# Altium schematic symbol library Esqlib.SchLib: 44 symbols (part 4 of 5)
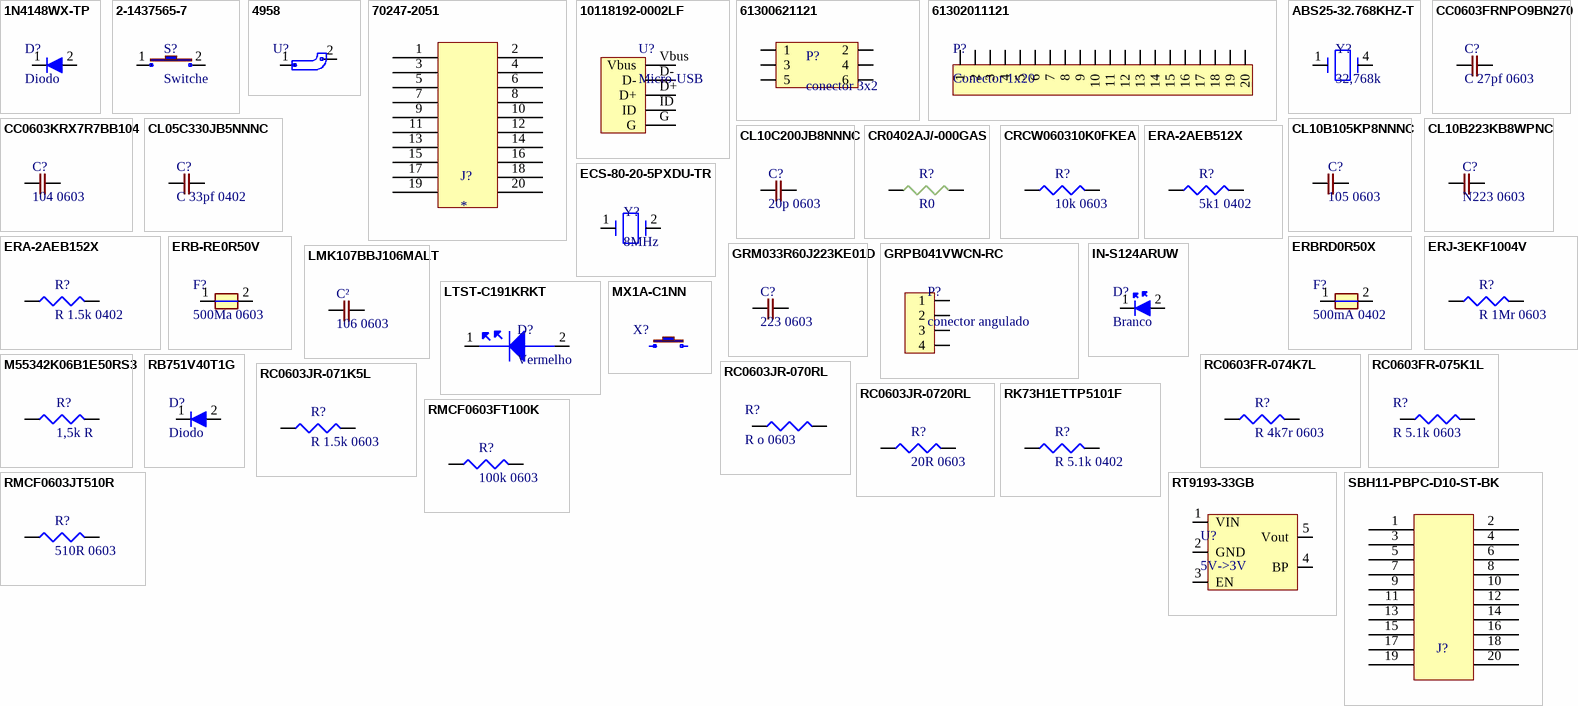
[diagram p4: symbols 1N4148WX-TP to SBH11-PBPC-D10-ST-BK]

## RC0603JR-071K5L
designator R?, comment R 1.5k 0603
100Mw Thick Film Resistors 100Ppm/ 5% 1.5K 0603 Chip Resistor Surface Mount Rohs; Manufacturer: Yageo Group; Manufacturer Part Number: RC0603JR-071K5L; Value: 1.5kΩ; Temperature Coefficient: 100ppm/°C; Voltage Rating: 75V; Voltage Rating (AC): 50V; Supplier: DigiKey; Supplier Part Number: 311-1.5KGRCT-ND; RoHS: Compliant; Category: Chip SMD Resistors; Stock: 704185; Pricing: 1=0,1, 10=0,005, 25=0,0048 (USD); Case/Package: 0603; Case Code (Imperial): 0603; China RoHS: Non-Compliant; Composition: Thick Film; Depth: 800µm; Features: Moisture Resistant; Height: 450µm; Lead Free: Lead Free; Length: 1.6mm; Lifecycle Status: Production; Max Operating Temperature: 155°C; Max Power Dissipation: 100mW; Military Standard: Not; Min Operating Temperature: -55°C; Mounting Technology: Surface Mount; Pins: 2; Number of Terminals: 2; Number of Terminations: 2; Packaging: Tape & Reel; Power Dissipation: 100mW; Power Rating: 100mW; REACH SVHC: Yes; Schedule B: 8533210045, 8533210045|8533210045, 8533210045|8533210045|8533210045, 8533210045|8533210045|8533210045|8533210045; Termination: SMD/SMT; Tolerance: 5%; Voltage Rating (DC): 50V; Weight: 2.012816mg; Width: 800µm; Working Voltage: 75V; ComponentLink1URL: https://datasheet.octopart.com:443/RC0603JR-071K5L-Yageo-datasheet-175887523.pdf?src-supplier=Newark; ComponentLink1Description: https://datasheet.octopart.com:443/RC0603JR-071K5L-Yageo-datasheet-175887523.pdf?src-supplier=Newark; ComponentLink2URL: https://datasheet.octopart.com:443/RC0603JR-071K5L-Yageo-datasheet-8328172.pdf?src-supplier=Newark; ComponentLink2Description: https://datasheet.octopart.com:443/RC0603JR-071K5L-Yageo-datasheet-8328172.pdf?src-supplier=Newark; ComponentLink3URL: https://datasheet.octopart.com:443/RC0603JR-071K5L-Yageo-datasheet-62067350.pdf?src-supplier=element14+APAC; ComponentLink3Description: https://datasheet.octopart.com:443/RC0603JR-071K5L-Yageo-datasheet-62067350.pdf?src-supplier=element14+APAC; ComponentLink4URL: https://datasheet.octopart.com:443/RC0603JR-071K5L-Yageo-datasheet-34211833.pdf?src-supplier=element14+APAC; ComponentLink4Description: https://datasheet.octopart.com:443/RC0603JR-071K5L-Yageo-datasheet-34211833.pdf?src-supplier=element14+APAC; ComponentLink5URL: https://datasheet.octopart.com:443/RC0603JR-071K5L-Yageo-Group-datasheet-176638170.pdf?src-supplier=Farnell; ComponentLink5Description: https://datasheet.octopart.com:443/RC0603JR-071K5L-Yageo-Group-datasheet-176638170.pdf?src-supplier=Farnell; ComponentLink6URL: https://datasheet.octopart.com:443/RC0603JR-071K5L-Yageo-datasheet-164759695.pdf?src-supplier=Future+Electronics; ComponentLink6Description: https://datasheet.octopart.com:443/RC0603JR-071K5L-Yageo-datasheet-164759695.pdf?src-supplier=Future+Electronics; ComponentLink7URL: https://datasheet.octopart.com:443/RC0603JR-071K5L-Yageo-datasheet-137700087.pdf?src-supplier=Future+Electronics; ComponentLink7Description: https://datasheet.octopart.com:443/RC0603JR-071K5L-Yageo-datasheet-137700087.pdf?src-supplier=Future+Electronics; ComponentLink8URL: https://datasheet.octopart.com:443/RC0603JR-071K5L-Yageo-datasheet-27584510.pdf?src-supplier=Future+Electronics; ComponentLink8Description: https://datasheet.octopart.com:443/RC0603JR-071K5L-Yageo-datasheet-27584510.pdf?src-supplier=Future+Electronics; ComponentLink9URL: https://datasheet.octopart.com:443/RC0603JR-071K5L-Yageo-datasheet-15599030.pdf?src-supplier=Future+Electronics; ComponentLink9Description: https://datasheet.octopart.com:443/RC0603JR-071K5L-Yageo-datasheet-15599030.pdf?src-supplier=Future+Electronics; ComponentLink10URL: https://datasheet.octopart.com:443/RC0603JR-071K5L-Yageo-datasheet-12596169.pdf?src-supplier=Future+Electronics; ComponentLink10Description: https://datasheet.octopart.com:443/RC0603JR-071K5L-Yageo-datasheet-12596169.pdf?src-supplier=Future+Electronics; ComponentLink11URL: https://datasheet.octopart.com:443/RC0603JR-071K5L-Yageo-datasheet-8324193.pdf?src-supplier=Future+Electronics; ComponentLink11Description: https://datasheet.octopart.com:443/RC0603JR-071K5L-Yageo-datasheet-8324193.pdf?src-supplier=Future+Electronics; ComponentLink12URL: https://datasheet.octopart.com:443/RC0603JR-071K5L-Yageo-datasheet-79472498.pdf?src-supplier=Megastar; ComponentLink12Description: https://datasheet.octopart.com:443/RC0603JR-071K5L-Yageo-datasheet-79472498.pdf?src-supplier=Megastar; ComponentLink13URL: https://datasheet.octopart.com/RC0603JR-071K5L-Yageo-datasheet-73766026.pdf; ComponentLink13Description: https://datasheet.octopart.com/RC0603JR-071K5L-Yageo-datasheet-73766026.pdf; ComponentLink14URL: https://datasheet.octopart.com:443/RC0603JR-071K5L-Yageo-datasheet-118562.pdf?src-supplier=DigiKey; ComponentLink14Description: https://datasheet.octopart.com:443/RC0603JR-071K5L-Yageo-datasheet-118562.pdf?src-supplier=DigiKey; ComponentLink15URL: http://sigma.octopart.com:80/conflict_mineral_statement/Yageo-company-3.pdf?src-supplier=Compliance+Statements; ComponentLink15Description: http://sigma.octopart.com:80/conflict_mineral_statement/Yageo-company-3.pdf?src-supplier=Compliance+Statements; ComponentLink16URL: http://sigma.octopart.com:80/rohs_statement/Yageo-company-2.pdf?src-supplier=Compliance+Statements; ComponentLink16Description: http://sigma.octopart.com:80/rohs_statement/Yageo-company-2.pdf?src-supplier=Compliance+Statements
footprint R 1.5k 0603
pins: 1, 2

## RC0603JR-0720RL
designator R?, comment 20R 0603
100mW Thick Film Resistors 75V ±100ppm/℃ ±5% 20Ω 0603 Chip Resistor - Surface Mount ROHS; Manufacturer: Yageo Group; Manufacturer Part Number: RC0603JR-0720RL; Temperature Coefficient: 100ppm/°C; Voltage Rating (DC): 50V; Supplier: DigiKey; Supplier Part Number: 311-20GRCT-ND; RoHS: Compliant; Category: Chip SMD Resistors; Stock: 1166777; Pricing: 1=0,1, 10=0,008, 25=0,0076, 50=0,0072, 100=0,0061, 250=0,005 (USD); Case/Package: 0603; Case Code (Imperial): 0603; China RoHS: Non-Compliant; Composition: Thick Film; Depth: 800µm; Features: Moisture Resistant; Height: 450µm; Lead Free: Lead Free; Length: 1.6mm; Lifecycle Status: Production; Max Operating Temperature: 155°C; Max Power Dissipation: 100mW; Military Standard: Not; Min Operating Temperature: -55°C; Mounting Technology: Surface Mount; Number of Terminals: 2; Number of Terminations: 2; Power Dissipation: 100mW; Power Rating: 100mW; REACH SVHC: Yes; Value: 20Ω; Schedule B: 8533210045, 8533210045|8533210045|8533210045|8533210045|8533210045; Termination: SMD/SMT; Tolerance: 5%; Voltage Rating: 75V; Weight: 2.012816mg; Width: 800µm; Working Voltage: 75V; ComponentLink1URL: https://datasheet.octopart.com:443/RC0603JR-0720RL-Yageo-datasheet-175887523.pdf?src-supplier=Newark; ComponentLink1Description: https://datasheet.octopart.com:443/RC0603JR-0720RL-Yageo-datasheet-175887523.pdf?src-supplier=Newark; ComponentLink2URL: https://datasheet.octopart.com:443/RC0603JR-0720RL-Yageo-datasheet-8328172.pdf?src-supplier=TME; ComponentLink2Description: https://datasheet.octopart.com:443/RC0603JR-0720RL-Yageo-datasheet-8328172.pdf?src-supplier=TME; ComponentLink3URL: https://datasheet.octopart.com:443/RC0603JR-0720RL-Yageo-datasheet-34211833.pdf?src-supplier=element14+APAC; ComponentLink3Description: https://datasheet.octopart.com:443/RC0603JR-0720RL-Yageo-datasheet-34211833.pdf?src-supplier=element14+APAC; ComponentLink4URL: https://datasheet.octopart.com:443/RC0603JR-0720RL-Yageo-datasheet-62067350.pdf?src-supplier=Farnell; ComponentLink4Description: https://datasheet.octopart.com:443/RC0603JR-0720RL-Yageo-datasheet-62067350.pdf?src-supplier=Farnell; ComponentLink5URL: https://datasheet.octopart.com:443/RC0603JR-0720RL-Yageo-datasheet-164759695.pdf?src-supplier=Future+Electronics; ComponentLink5Description: https://datasheet.octopart.com:443/RC0603JR-0720RL-Yageo-datasheet-164759695.pdf?src-supplier=Future+Electronics; ComponentLink6URL: https://datasheet.octopart.com:443/RC0603JR-0720RL-Yageo-datasheet-137700087.pdf?src-supplier=Future+Electronics; ComponentLink6Description: https://datasheet.octopart.com:443/RC0603JR-0720RL-Yageo-datasheet-137700087.pdf?src-supplier=Future+Electronics; ComponentLink7URL: https://datasheet.octopart.com:443/RC0603JR-0720RL-Yageo-datasheet-15599030.pdf?src-supplier=Future+Electronics; ComponentLink7Description: https://datasheet.octopart.com:443/RC0603JR-0720RL-Yageo-datasheet-15599030.pdf?src-supplier=Future+Electronics; ComponentLink8URL: https://datasheet.octopart.com:443/RC0603JR-0720RL-Yageo-datasheet-12596169.pdf?src-supplier=Future+Electronics; ComponentLink8Description: https://datasheet.octopart.com:443/RC0603JR-0720RL-Yageo-datasheet-12596169.pdf?src-supplier=Future+Electronics; ComponentLink9URL: https://datasheet.octopart.com:443/RC0603JR-0720RL-Yageo-datasheet-8324193.pdf?src-supplier=Future+Electronics; ComponentLink9Description: https://datasheet.octopart.com:443/RC0603JR-0720RL-Yageo-datasheet-8324193.pdf?src-supplier=Future+Electronics; ComponentLink10URL: https://datasheet.octopart.com/RC0603JR-0720RL-Yageo-datasheet-73766026.pdf; ComponentLink10Description: https://datasheet.octopart.com/RC0603JR-0720RL-Yageo-datasheet-73766026.pdf; ComponentLink11URL: https://datasheet.octopart.com:443/RC0603JR-0720RL-Yageo-datasheet-118562.pdf?src-supplier=DigiKey; ComponentLink11Description: https://datasheet.octopart.com:443/RC0603JR-0720RL-Yageo-datasheet-118562.pdf?src-supplier=DigiKey; ComponentLink12URL: http://sigma.octopart.com:80/rohs_statement/Yageo-company-2.pdf?src-supplier=Compliance+Statements; ComponentLink12Description: http://sigma.octopart.com:80/rohs_statement/Yageo-company-2.pdf?src-supplier=Compliance+Statements; ComponentLink13URL: http://sigma.octopart.com:80/conflict_mineral_statement/Yageo-company-3.pdf?src-supplier=Compliance+Statements; ComponentLink13Description: http://sigma.octopart.com:80/conflict_mineral_statement/Yageo-company-3.pdf?src-supplier=Compliance+Statements
footprint R 20r 0603
pins: 1, 2

## RK73H1ETTP5101F
designator R?, comment R 5.1k 0402
Res Thick Film 0402 5.1K Ohm 1% 0.1W(1/10W) ±100ppm/C Pad SMD Automotive T/R; Manufacturer: KOA Speer; Manufacturer Part Number: RK73H1ETTP5101F; Power Dissipation: 100mW; Power Rating: 63mW; Value: 5.1kΩ; Temperature Coefficient: 100ppm/°C; Voltage Rating: 50V; Working Voltage: 75V; Supplier: DigiKey; Supplier Part Number: 2019-RK73H1ETTP5101FCT-ND; RoHS: Compliant; Category: Chip SMD Resistors; Stock: 145862; Pricing: 1=0,1, 10=0,027, 25=0,0196, 50=0,0158, 100=0,0129, 250=0,01004, 500=0,0084, 1000=0,00713, 5000=0,00544 (USD); Case/Package: 0402; Case Code (Imperial): 0402; Case Code (Metric): 1005; China RoHS: Non-Compliant; Composition: Thick Film; Height: 350µm; Lead Free: Lead Free; Length: 1mm; Lifecycle Status: Production; Max Operating Temperature: 155°C; Min Operating Temperature: -55°C; Mounting Technology: Surface Mount; Number of Terminals: 2; REACH SVHC: Yes; Schedule B: 8533210045, 8533210045|8533210045|8533210045|8533210045|8533210045; Termination: SMD/SMT; Tolerance: 1%; Voltage Rating (DC): 50V; Width: 500µm; ComponentLink1URL: https://datasheet.octopart.com:443/RK73H1ETTP5101F-KOA-Speer-datasheet-181956035.pdf?src-supplier=IHS; ComponentLink1Description: https://datasheet.octopart.com:443/RK73H1ETTP5101F-KOA-Speer-datasheet-181956035.pdf?src-supplier=IHS; ComponentLink2URL: https://datasheet.octopart.com:443/RK73H1ETTP5101F-KOA-Speer-datasheet-11590619.pdf?src-supplier=Upverter; ComponentLink2Description: https://datasheet.octopart.com:443/RK73H1ETTP5101F-KOA-Speer-datasheet-11590619.pdf?src-supplier=Upverter; ComponentLink3URL: https://datasheet.octopart.com:443/RK73H1ETTP5101F-KOA-Speer-datasheet-149653815.pdf?src-supplier=Newark; ComponentLink3Description: https://datasheet.octopart.com:443/RK73H1ETTP5101F-KOA-Speer-datasheet-149653815.pdf?src-supplier=Newark; ComponentLink4URL: https://datasheet.octopart.com:443/RK73H1ETTP5101F-KOA-Speer-datasheet-188906116.pdf?src-supplier=TME; ComponentLink4Description: https://datasheet.octopart.com:443/RK73H1ETTP5101F-KOA-Speer-datasheet-188906116.pdf?src-supplier=TME; ComponentLink5URL: https://datasheet.octopart.com:443/RK73H1ETTP5101F-KOA-Speer-datasheet-155997623.pdf?src-supplier=Future+Electronics; ComponentLink5Description: https://datasheet.octopart.com:443/RK73H1ETTP5101F-KOA-Speer-datasheet-155997623.pdf?src-supplier=Future+Electronics; ComponentLink6URL: https://datasheet.octopart.com/RK73H-%7C-Flat-Chip-Resistors-%28Precision-Grade%29-KOA-Speer-datasheet-family-85.pdf; ComponentLink6Description: https://datasheet.octopart.com/RK73H-%7C-Flat-Chip-Resistors-%28Precision-Grade%29-KOA-Speer-datasheet-family-85.pdf; ComponentLink7URL: http://sigma.octopart.com:80/rohs_certificate/RK73H-%7C-Flat-Chip-Resistors-%28Precision-Grade%29-KOA-Speer-family-91.pdf?src-supplier=Compliance+Statements; ComponentLink7Description: http://sigma.octopart.com:80/rohs_certificate/RK73H-%7C-Flat-Chip-Resistors-%28Precision-Grade%29-KOA-Speer-family-91.pdf?src-supplier=Compliance+Statements
footprint R 5.1k 0402
pins: 1, 2

## RMCF0603FT100K
designator R?, comment 100k 0603
Res Thick Film 0603 100K Ohm 1% 0.1W(1/10W) ±100ppm/C Pad SMD Automotive T/R; Manufacturer: Stackpole Electronics; Manufacturer Part Number: RMCF0603FT100K; Max Power Dissipation: 100mW; Value: 100kΩ; Temperature Coefficient: 100ppm/°C; Voltage Rating: 75V; Supplier: DigiKey; Supplier Part Number: RMCF0603FT100KCT-ND; RoHS: Compliant; Category: Chip SMD Resistors; Stock: 1557284; Pricing: 1=0,1, 10=0,013, 25=0,0096, 50=0,0092, 100=0,0069, 250=0,00576, 500=0,0048 (USD); Case/Package: 0603; Case Code (Imperial): 0603; Case Code (Metric): 1608; China RoHS: Non-Compliant; Composition: Thick Film; Contact Plating: Tin; Depth: 800µm; Features: Automotive AEC-Q200; Height: 450µm; Lead Free: Lead Free; Length: 1.55mm; Lifecycle Status: Production; Max Operating Temperature: 155°C; Military Standard: Not; Min Operating Temperature: -55°C; Mounting Technology: Surface Mount; Number of Terminals: 2; Number of Terminations: 2; Packaging: Cut Tape (CT); Power Dissipation: 100mW; Power Rating: 100mW; Radiation Hardening: No; REACH SVHC: Yes; Schedule B: 8533210045, 8533210045|8533210045, 8533210045|8533210045|8533210045, 8533210045|8533210045|8533210045|8533210045; Tolerance: 1%; Width: 800µm; Working Voltage: 75V; ComponentLink1URL: https://datasheet.octopart.com:443/RMCF0603FT100K-Stackpole-Electronics-datasheet-182148065.pdf?src-supplier=IHS; ComponentLink1Description: https://datasheet.octopart.com:443/RMCF0603FT100K-Stackpole-Electronics-datasheet-182148065.pdf?src-supplier=IHS; ComponentLink2URL: https://datasheet.octopart.com:443/RMCF0603FT100K-Stackpole-Electronics-datasheet-12534581.pdf?src-supplier=Upverter; ComponentLink2Description: https://datasheet.octopart.com:443/RMCF0603FT100K-Stackpole-Electronics-datasheet-12534581.pdf?src-supplier=Upverter; ComponentLink3URL: https://datasheet.octopart.com:443/RMCF0603FT100K-Stackpole-Electronics-datasheet-28504820.pdf?src-supplier=Upverter; ComponentLink3Description: https://datasheet.octopart.com:443/RMCF0603FT100K-Stackpole-Electronics-datasheet-28504820.pdf?src-supplier=Upverter; ComponentLink4URL: https://datasheet.octopart.com:443/RMCF0603FT100K-Stackpole-Electronics-datasheet-12510902.pdf?src-supplier=Upverter; ComponentLink4Description: https://datasheet.octopart.com:443/RMCF0603FT100K-Stackpole-Electronics-datasheet-12510902.pdf?src-supplier=Upverter; ComponentLink5URL: https://datasheet.octopart.com:443/RMCF0603FT100K-Stackpole-Electronics-datasheet-141193804.pdf?src-supplier=Stackpole+Electronics; ComponentLink5Description: https://datasheet.octopart.com:443/RMCF0603FT100K-Stackpole-Electronics-datasheet-141193804.pdf?src-supplier=Stackpole+Electronics; ComponentLink6URL: https://datasheet.octopart.com:443/RMCF0603FT100K-Stackpole-Electronics-datasheet-62091608.pdf?src-supplier=Stackpole+Electronics; ComponentLink6Description: https://datasheet.octopart.com:443/RMCF0603FT100K-Stackpole-Electronics-datasheet-62091608.pdf?src-supplier=Stackpole+Electronics; ComponentLink7URL: https://datasheet.octopart.com:443/RMCF0603FT100K-Stackpole-Electronics-datasheet-10788263.pdf?src-supplier=Stackpole+Electronics; ComponentLink7Description: https://datasheet.octopart.com:443/RMCF0603FT100K-Stackpole-Electronics-datasheet-10788263.pdf?src-supplier=Stackpole+Electronics; ComponentLink8URL: https://datasheet.octopart.com:443/RMCF0603FT100K-Stackpole-Electronics-datasheet-155966809.pdf?src-supplier=Electro+Sonic; ComponentLink8Description: https://datasheet.octopart.com:443/RMCF0603FT100K-Stackpole-Electronics-datasheet-155966809.pdf?src-supplier=Electro+Sonic; ComponentLink9URL: https://datasheet.octopart.com:443/RMCF0603FT100K-Stackpole-Electronics-datasheet-189104164.pdf?src-supplier=Master+Electronics; ComponentLink9Description: https://datasheet.octopart.com:443/RMCF0603FT100K-Stackpole-Electronics-datasheet-189104164.pdf?src-supplier=Master+Electronics; ComponentLink10URL: https://datasheet.octopart.com:443/RMCF0603FT100K-Stackpole-Electronics-datasheet-154799224.pdf?src-supplier=Master+Electronics; ComponentLink10Description: https://datasheet.octopart.com:443/RMCF0603FT100K-Stackpole-Electronics-datasheet-154799224.pdf?src-supplier=Master+Electronics; ComponentLink11URL: https://datasheet.octopart.com:443/RMCF0603FT100K-Stackpole-Electronics-datasheet-11546843.pdf?src-supplier=Arrow+Electronics; ComponentLink11Description: https://datasheet.octopart.com:443/RMCF0603FT100K-Stackpole-Electronics-datasheet-11546843.pdf?src-supplier=Arrow+Electronics; ComponentLink12URL: https://datasheet.octopart.com:443/RMCF0603FT100K-Stackpole-Electronics-datasheet-11547379.pdf?src-supplier=Future+Electronics; ComponentLink12Description: https://datasheet.octopart.com:443/RMCF0603FT100K-Stackpole-Electronics-datasheet-11547379.pdf?src-supplier=Future+Electronics; ComponentLink13URL: https://datasheet.octopart.com:443/RMCF0603FT100K-Stackpole-Electronics-datasheet-8359789.pdf?src-supplier=Future+Electronics; ComponentLink13Description: https://datasheet.octopart.com:443/RMCF0603FT100K-Stackpole-Electronics-datasheet-8359789.pdf?src-supplier=Future+Electronics; ComponentLink14URL: https://datasheet.octopart.com:443/RMCF0603FT100K-Stackpole-Electronics-datasheet-8324226.pdf?src-supplier=Future+Electronics; ComponentLink14Description: https://datasheet.octopart.com:443/RMCF0603FT100K-Stackpole-Electronics-datasheet-8324226.pdf?src-supplier=Future+Electronics; ComponentLink15URL: http://sigma.octopart.com:80/15940719/materials_sheet/Stackpole-Electronics-RMCF0603FT100K.pdf?src-supplier=Compliance+Statements; ComponentLink15Description: http://sigma.octopart.com:80/15940719/materials_sheet/Stackpole-Electronics-RMCF0603FT100K.pdf?src-supplier=Compliance+Statements; ComponentLink16URL: http://sigma.octopart.com:80/141158211/reach_statement/Stackpole-Electronics-RMCF0603FT100K.pdf?src-supplier=Compliance+Statements; ComponentLink16Description: http://sigma.octopart.com:80/141158211/reach_statement/Stackpole-Electronics-RMCF0603FT100K.pdf?src-supplier=Compliance+Statements; ComponentLink17URL: http://sigma.octopart.com:80/141158212/rohs_statement/Stackpole-Electronics-RMCF0603FT100K.pdf?src-supplier=Compliance+Statements; ComponentLink17Description: http://sigma.octopart.com:80/141158212/rohs_statement/Stackpole-Electronics-RMCF0603FT100K.pdf?src-supplier=Compliance+Statements
footprint Resistor 100k 0603
pins: 1, 2

## RMCF0603JT510R
designator R?, comment 510R 0603
Res Thick Film 0603 510 Ohm 5% 1/10W ±200ppm/°C Molded SMD Paper T/R; Manufacturer: Stackpole Electronics; Manufacturer Part Number: RMCF0603JT510R; Max Power Dissipation: 100mW; Value: 510Ω; Voltage Rating: 75V; Supplier: DigiKey; Supplier Part Number: RMCF0603JT510RCT-ND; RoHS: Compliant; Category: Chip SMD Resistors; Stock: 362441; Pricing: 1=0,1, 10=0,011, 25=0,0084, 50=0,0066, 100=0,0054, 250=0,00448 (USD); Case/Package: 0603; Case Code (Imperial): 0603; Case Code (Metric): 1608; China RoHS: Non-Compliant; Composition: Thick Film; Contact Plating: Tin; Depth: 800µm; Features: Automotive AEC-Q200; Height: 450µm; Lead Free: Lead Free; Length: 1.5494mm; Lifecycle Status: Production; Max Operating Temperature: 155°C; Military Standard: Not; Min Operating Temperature: -55°C; Mounting Technology: Surface Mount; Number of Terminals: 2; Number of Terminations: 2; Packaging: Digi-Reel®; Power Dissipation: 100mW; Power Rating: 100mW; Radiation Hardening: No; REACH SVHC: Yes; Schedule B: 8533210045, 8533210045|8533210045, 8533210045|8533210045|8533210045, 8533210045|8533210045|8533210045|8533210045; Temperature Coefficient: 200ppm/°C; Tolerance: 5%; Width: 800µm; Working Voltage: 75V; ComponentLink1URL: https://datasheet.octopart.com:443/RMCF0603JT510R-Stackpole-Electronics-datasheet-182148065.pdf?src-supplier=IHS; ComponentLink1Description: https://datasheet.octopart.com:443/RMCF0603JT510R-Stackpole-Electronics-datasheet-182148065.pdf?src-supplier=IHS; ComponentLink2URL: https://datasheet.octopart.com:443/RMCF0603JT510R-Stackpole-Electronics-datasheet-28504820.pdf?src-supplier=Upverter; ComponentLink2Description: https://datasheet.octopart.com:443/RMCF0603JT510R-Stackpole-Electronics-datasheet-28504820.pdf?src-supplier=Upverter; ComponentLink3URL: https://datasheet.octopart.com:443/RMCF0603JT510R-Stackpole-Electronics-datasheet-141193804.pdf?src-supplier=Stackpole+Electronics; ComponentLink3Description: https://datasheet.octopart.com:443/RMCF0603JT510R-Stackpole-Electronics-datasheet-141193804.pdf?src-supplier=Stackpole+Electronics; ComponentLink4URL: https://datasheet.octopart.com:443/RMCF0603JT510R-Stackpole-Electronics-datasheet-62091608.pdf?src-supplier=Stackpole+Electronics; ComponentLink4Description: https://datasheet.octopart.com:443/RMCF0603JT510R-Stackpole-Electronics-datasheet-62091608.pdf?src-supplier=Stackpole+Electronics; ComponentLink5URL: https://datasheet.octopart.com:443/RMCF0603JT510R-Stackpole-Electronics-datasheet-12534581.pdf?src-supplier=Stackpole+Electronics; ComponentLink5Description: https://datasheet.octopart.com:443/RMCF0603JT510R-Stackpole-Electronics-datasheet-12534581.pdf?src-supplier=Stackpole+Electronics; ComponentLink6URL: https://datasheet.octopart.com:443/RMCF0603JT510R-Stackpole-Electronics-datasheet-10788263.pdf?src-supplier=Stackpole+Electronics; ComponentLink6Description: https://datasheet.octopart.com:443/RMCF0603JT510R-Stackpole-Electronics-datasheet-10788263.pdf?src-supplier=Stackpole+Electronics; ComponentLink7URL: https://datasheet.octopart.com:443/RMCF0603JT510R-Stackpole-Electronics-datasheet-11547379.pdf?src-supplier=Future+Electronics; ComponentLink7Description: https://datasheet.octopart.com:443/RMCF0603JT510R-Stackpole-Electronics-datasheet-11547379.pdf?src-supplier=Future+Electronics; ComponentLink8URL: https://datasheet.octopart.com:443/RMCF0603JT510R-Stackpole-Electronics-datasheet-8359789.pdf?src-supplier=Future+Electronics; ComponentLink8Description: https://datasheet.octopart.com:443/RMCF0603JT510R-Stackpole-Electronics-datasheet-8359789.pdf?src-supplier=Future+Electronics; ComponentLink9URL: https://datasheet.octopart.com:443/RMCF0603JT510R-Stackpole-Electronics-datasheet-8324226.pdf?src-supplier=Future+Electronics; ComponentLink9Description: https://datasheet.octopart.com:443/RMCF0603JT510R-Stackpole-Electronics-datasheet-8324226.pdf?src-supplier=Future+Electronics; ComponentLink10URL: https://datasheet.octopart.com:443/RMCF0603JT510R-Stackpole-Electronics-datasheet-8088878.pdf?src-supplier=Future+Electronics; ComponentLink10Description: https://datasheet.octopart.com:443/RMCF0603JT510R-Stackpole-Electronics-datasheet-8088878.pdf?src-supplier=Future+Electronics; ComponentLink11URL: https://datasheet.octopart.com:443/RMCF0603JT510R-Stackpole-Electronics-datasheet-5313682.pdf?src-supplier=Future+Electronics; ComponentLink11Description: https://datasheet.octopart.com:443/RMCF0603JT510R-Stackpole-Electronics-datasheet-5313682.pdf?src-supplier=Future+Electronics; ComponentLink12URL: http://sigma.octopart.com:80/15940719/materials_sheet/Stackpole-Electronics-RMCF0603JT510R.pdf?src-supplier=Compliance+Statements; ComponentLink12Description: http://sigma.octopart.com:80/15940719/materials_sheet/Stackpole-Electronics-RMCF0603JT510R.pdf?src-supplier=Compliance+Statements; ComponentLink13URL: http://sigma.octopart.com:80/141158211/reach_statement/Stackpole-Electronics-RMCF0603JT510R.pdf?src-supplier=Compliance+Statements; ComponentLink13Description: http://sigma.octopart.com:80/141158211/reach_statement/Stackpole-Electronics-RMCF0603JT510R.pdf?src-supplier=Compliance+Statements; ComponentLink14URL: http://sigma.octopart.com:80/141158212/rohs_statement/Stackpole-Electronics-RMCF0603JT510R.pdf?src-supplier=Compliance+Statements; ComponentLink14Description: http://sigma.octopart.com:80/141158212/rohs_statement/Stackpole-Electronics-RMCF0603JT510R.pdf?src-supplier=Compliance+Statements
footprint Resistor 510R 0603
pins: 1, 2

## RT9193-33GB
designator U?, comment 5V->3V
RT9193 Series 300 mA 3.3 V Ultra-Low Noise Ultra-Fast CMOS LDO Regulator-SC-70-5; Manufacturer: Richtek; Manufacturer Part Number: RT9193-33GB; Dropout Voltage: 220mV; Max Supply Voltage: 5.5V; Max Junction Temperature (Tj): 125°C; Min Current Limit: 360mA; Min Input Voltage: 4.3V; Nominal Output Voltage: 3.3V; Number of Circuits: 1; Output Current: 300mA; Voltage Tolerance: 2%; Supplier: DigiKey; Supplier Part Number: 1028-1014-1-ND; RoHS: Compliant; Category: LDO Voltage Regulators; Stock: 9476; Pricing: 1=0,41, 10=0,283, 25=0,2516, 100=0,2178, 250=0,20156, 500=0,19182, 1000=0,18377 (USD); Case/Package: SOT-23-5; Height - Seated (Max): 1.295mm; Lead Free: Lead Free; Length: 2.89mm; Lifecycle Status: Production; Max Operating Temperature: 85°C; Min Operating Temperature: -40°C; Mounting Technology: Surface Mount; Number of Outputs: 1; Pins: 5; Number of Regulators: 1; Number of Terminals: 5; Output Voltage: 3.3V; REACH SVHC: Yes; Terminal Pitch: 950µm; Width: 1.6mm; ComponentLink1URL: https://datasheet.octopart.com:443/RT9193-33GB-Richtek-datasheet-181204355.pdf?src-supplier=ODG+(Origin+Data+Global); ComponentLink1Description: https://datasheet.octopart.com:443/RT9193-33GB-Richtek-datasheet-181204355.pdf?src-supplier=ODG+(Origin+Data+Global); ComponentLink2URL: https://datasheet.octopart.com:443/RT9193-33GB-Richtek-datasheet-103962855.pdf?src-supplier=Augswan; ComponentLink2Description: https://datasheet.octopart.com:443/RT9193-33GB-Richtek-datasheet-103962855.pdf?src-supplier=Augswan; ComponentLink3URL: https://datasheet.octopart.com:443/RT9193-33GB-Richtek-datasheet-140440429.pdf?src-supplier=LKR; ComponentLink3Description: https://datasheet.octopart.com:443/RT9193-33GB-Richtek-datasheet-140440429.pdf?src-supplier=LKR; ComponentLink4URL: https://datasheet.octopart.com:443/RT9193-33GB-Richtek-datasheet-21631297.pdf?src-supplier=element14+APAC; ComponentLink4Description: https://datasheet.octopart.com:443/RT9193-33GB-Richtek-datasheet-21631297.pdf?src-supplier=element14+APAC; ComponentLink5URL: https://datasheet.octopart.com:443/RT9193-33GB-Richtek-datasheet-21405099.pdf?src-supplier=Future+Electronics; ComponentLink5Description: https://datasheet.octopart.com:443/RT9193-33GB-Richtek-datasheet-21405099.pdf?src-supplier=Future+Electronics; ComponentLink6URL: https://datasheet.octopart.com:443/RT9193-33GB-Richtek-datasheet-12517944.pdf?src-supplier=Future+Electronics; ComponentLink6Description: https://datasheet.octopart.com:443/RT9193-33GB-Richtek-datasheet-12517944.pdf?src-supplier=Future+Electronics; ComponentLink7URL: https://datasheet.octopart.com:443/RT9193-33GB-Richtek-datasheet-14171959.pdf?src-supplier=iiiC; ComponentLink7Description: https://datasheet.octopart.com:443/RT9193-33GB-Richtek-datasheet-14171959.pdf?src-supplier=iiiC
footprint Regulador 5v->3v
pins: 1 VIN, 2 GND, 3 EN, 4 BP, 5 Vout

## SBH11-PBPC-D10-ST-BK
designator J?  (value not drawn)
Conn Shrouded Header (4 Sides) HDR 20 POS 2.54mm Solder ST Top Entry Thru-Hole; Manufacturer: Sullins; Manufacturer Part Number: SBH11-PBPC-D10-ST-BK; Connector Type: Male Pin; Contact Resistance: 20mΩ; Current Rating: 3A; Insulation Resistance: 5GΩ; Number of Positions: 20; Supplier: DigiKey; Supplier Part Number: S9172-ND; RoHS: Compliant; Category: Card Edge Connectors; Stock: 30038; Pricing: 1=0,41, 10=0,347, 100=0,2945, 500=0,26284, 1000=0,25028, 5000=0,22341, 10000=0,21275 (USD); Color: Black; Contact Gender: Male; Contact Material: Brass; Contact Plating: Gold; Lead Free: Lead Free; Lifecycle Status: Production; Max Operating Temperature: 105°C; Min Operating Temperature: -40°C; Mounting Technology: Through Hole; Pins: 20; Number of Rows: 2; Pitch: 2.54mm; REACH SVHC: Yes; Row Spacing: 2.54mm; Terminal Pitch: 2.54mm; Termination: Solder; ComponentLink1URL: https://datasheet.octopart.com:443/SBH11-PBPC-D10-ST-BK-Sullins-datasheet-83216131.pdf?src-supplier=IHS; ComponentLink1Description: https://datasheet.octopart.com:443/SBH11-PBPC-D10-ST-BK-Sullins-datasheet-83216131.pdf?src-supplier=IHS; ComponentLink2URL: https://datasheet.octopart.com:443/SBH11-PBPC-D10-ST-BK-Sullins-datasheet-41399312.pdf?src-supplier=Future+Electronics; ComponentLink2Description: https://datasheet.octopart.com:443/SBH11-PBPC-D10-ST-BK-Sullins-datasheet-41399312.pdf?src-supplier=Future+Electronics; ComponentLink3URL: https://datasheet.octopart.com:443/SBH11-PBPC-D10-ST-BK-Sullins-datasheet-12512855.pdf?src-supplier=Future+Electronics; ComponentLink3Description: https://datasheet.octopart.com:443/SBH11-PBPC-D10-ST-BK-Sullins-datasheet-12512855.pdf?src-supplier=Future+Electronics
footprint Conector 20 pinos p/ programação
pins: 1, 2, 3, 4, 5, 6, 7, 8, 9, 10, 11, 12, 13, 14, 15, 16, 17, 18, 19, 20

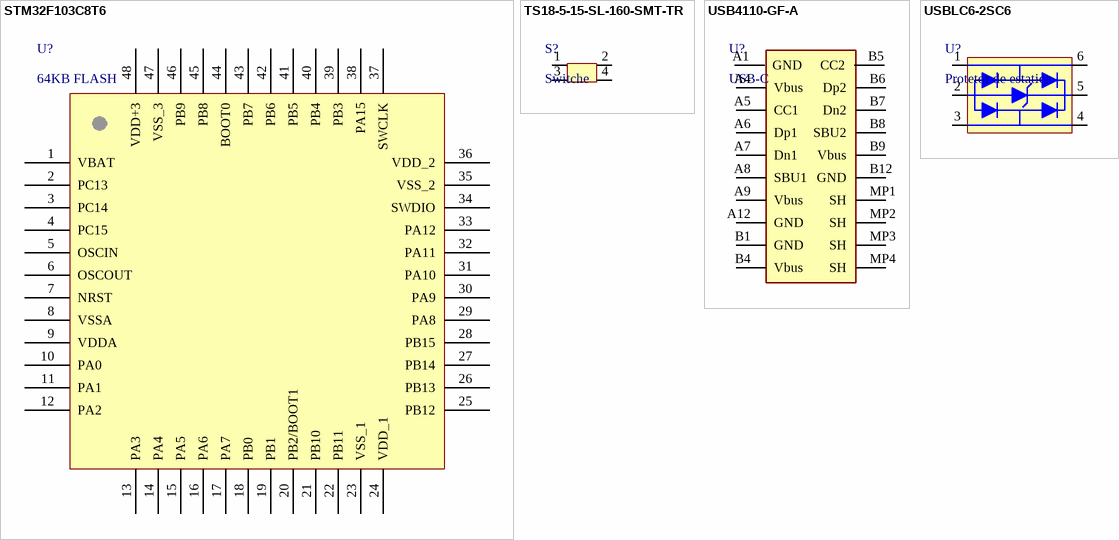
[diagram p1: symbols STM32F103C8T6 to USBLC6-2SC6]

## STM32F103C8T6
designator U?, comment 64KB FLASH
MCU 32-bit STM32F1 ARM Cortex M3 RISC 64KB Flash 2.5V/3.3V 48-Pin LQFP Tray; Manufacturer: STMicroelectronics; Manufacturer Part Number: STM32F103C8T6; Manufacturer Package Identifier: ai14911d; Address Bus Width: 32b; Clock Rate: 16MHz; Density: 512kb; EEPROM Memory Size: 0B; Frequency: 72MHz; Interface: CAN, USB; Max Power Dissipation: 363mW; Max Supply Current: 50mA; Max Supply Voltage: 3.6V; Min Supply Voltage: 2V; Nominal Supply Current: 1.7µA; Number of A/D Converters: 2; Number of ADC Channels: 10; Number of Bits: 32; Number of I/Os: 37; Number of Interrupts: 16; Number of Programmable I/O: 48; Number of PWM Channels: 1; Number of Timers/Counters: 4; Number of USART Channels: 3; Operating Supply Voltage: 3.3V; Oscillator Type: Internal; Peripherals: DMA, I2C, POR, PWM, Temp Sensor, WDT; RAM Size: 20kB; Watchdog Timer: Yes; Supplier: DigiKey; Supplier Part Number: 497-6063-ND; RoHS: Compliant; Category: Microcontrollers; Stock: 5599; Pricing: 1=6,08, 10=4,662, 25=4,3084, 100=3,9192, 250=3,73372, 500=3,6219, 1000=3,5299, 2500=3,43276 (USD); Case/Package: LQFP; China RoHS: Compliant; Core Architecture: ARM; Data Bus Width: 32b; Flash Memory Size: 64kB; Height: 1.45mm; Height - Seated (Max): 1.6mm; Lead Free: Lead Free; Length: 7mm; Lifecycle Status: Production; Clock Frequency: 72MHz; Max Operating Temperature: 85°C; Memory Size: 64kB; Memory Format: FLASH; Min Operating Temperature: -40°C; Mounting Technology: Surface Mount; Number of Channels: 10; Number of I2C Channels: 2; Pins: 48; Number of SPI Channels: 2; Number of Terminals: 48; Radiation Hardening: No; REACH SVHC: Yes; Schedule B: 8542310000; Terminal Pitch: 500µm; Termination: SMD/SMT; Width: 7mm; ComponentLink1URL: https://datasheet.octopart.com:443/STM32F103C8T6-STMicroelectronics-datasheet-48026265.pdf?src-supplier=ICpick; ComponentLink1Description: https://datasheet.octopart.com:443/STM32F103C8T6-STMicroelectronics-datasheet-48026265.pdf?src-supplier=ICpick; ComponentLink2URL: https://datasheet.octopart.com:443/STM32F103C8T6-STMicroelectronics-datasheet-10330614.pdf?src-supplier=Newark; ComponentLink2Description: https://datasheet.octopart.com:443/STM32F103C8T6-STMicroelectronics-datasheet-10330614.pdf?src-supplier=Newark; ComponentLink3URL: https://datasheet.octopart.com:443/STM32F103C8T6-STMicroelectronics-datasheet-16839800.pdf?src-supplier=Newark; ComponentLink3Description: https://datasheet.octopart.com:443/STM32F103C8T6-STMicroelectronics-datasheet-16839800.pdf?src-supplier=Newark; ComponentLink4URL: https://datasheet.octopart.com:443/STM32F103C8T6-STMicroelectronics-datasheet-14363502.pdf?src-supplier=Farnell; ComponentLink4Description: https://datasheet.octopart.com:443/STM32F103C8T6-STMicroelectronics-datasheet-14363502.pdf?src-supplier=Farnell; ComponentLink5URL: https://datasheet.octopart.com:443/STM32F103C8T6-STMicroelectronics-datasheet-500013.pdf?src-supplier=Farnell; ComponentLink5Description: https://datasheet.octopart.com:443/STM32F103C8T6-STMicroelectronics-datasheet-500013.pdf?src-supplier=Farnell; ComponentLink6URL: https://datasheet.octopart.com:443/STM32F103C8T6-STMicroelectronics-datasheet-8365036.pdf?src-supplier=Farnell; ComponentLink6Description: https://datasheet.octopart.com:443/STM32F103C8T6-STMicroelectronics-datasheet-8365036.pdf?src-supplier=Farnell; ComponentLink7URL: https://datasheet.octopart.com:443/STM32F103C8T6-STMicroelectronics-datasheet-6396519.pdf?src-supplier=Verical; ComponentLink7Description: https://datasheet.octopart.com:443/STM32F103C8T6-STMicroelectronics-datasheet-6396519.pdf?src-supplier=Verical; ComponentLink8URL: https://datasheet.octopart.com:443/STM32F103C8T6-STMicroelectronics-datasheet-21407612.pdf?src-supplier=element14+APAC; ComponentLink8Description: https://datasheet.octopart.com:443/STM32F103C8T6-STMicroelectronics-datasheet-21407612.pdf?src-supplier=element14+APAC; ComponentLink9URL: https://datasheet.octopart.com:443/STM32F103C8T6-STMicroelectronics-datasheet-8700640.pdf?src-supplier=element14; ComponentLink9Description: https://datasheet.octopart.com:443/STM32F103C8T6-STMicroelectronics-datasheet-8700640.pdf?src-supplier=element14; ComponentLink10URL: https://datasheet.octopart.com:443/STM32F103C8T6-STMicroelectronics-datasheet-177520228.pdf?src-supplier=Burklin+Elektronik; ComponentLink10Description: https://datasheet.octopart.com:443/STM32F103C8T6-STMicroelectronics-datasheet-177520228.pdf?src-supplier=Burklin+Elektronik; ComponentLink11URL: https://datasheet.octopart.com:443/STM32F103C8T6-STMicroelectronics-datasheet-165583531.pdf?src-supplier=SOS+electronic; ComponentLink11Description: https://datasheet.octopart.com:443/STM32F103C8T6-STMicroelectronics-datasheet-165583531.pdf?src-supplier=SOS+electronic; ComponentLink12URL: https://datasheet.octopart.com:443/STM32F103C8T6-STMicroelectronics-datasheet-14106722.pdf?src-supplier=iiiC; ComponentLink12Description: https://datasheet.octopart.com:443/STM32F103C8T6-STMicroelectronics-datasheet-14106722.pdf?src-supplier=iiiC; ComponentLink13URL: https://datasheet.octopart.com:443/STM32F103C8T6-STMicroelectronics-datasheet-17594274.pdf?src-supplier=TME; ComponentLink13Description: https://datasheet.octopart.com:443/STM32F103C8T6-STMicroelectronics-datasheet-17594274.pdf?src-supplier=TME; ComponentLink14URL: https://datasheet.octopart.com:443/STM32F103C8T6-STMicroelectronics-datasheet-148251.pdf?src-supplier=Nu+Horizons; ComponentLink14Description: https://datasheet.octopart.com:443/STM32F103C8T6-STMicroelectronics-datasheet-148251.pdf?src-supplier=Nu+Horizons
footprint STM32F103C8T6
pins: 1 VBAT, 2 PC13, 3 PC14, 4 PC15, 5 OSCIN, 6 OSCOUT, 7 NRST, 8 VSSA, 9 VDDA, 10 PA0, 11 PA1, 12 PA2, 13 PA3, 14 PA4, 15 PA5, 16 PA6, 17 PA7, 18 PB0, 19 PB1, 20 PB2/BOOT1, 21 PB10, 22 PB11, 23 VSS_1, 24 VDD_1, 25 PB12, 26 PB13, 27 PB14, 28 PB15, 29 PA8, 30 PA9, 31 PA10, 32 PA11, 33 PA12, 34 SWDIO, 35 VSS_2, 36 VDD_2, 37 SWCLK, 38 PA15, 39 PB3, 40 PB4, 41 PB5, 42 PB6, 43 PB7, 44 BOOT0, 45 PB8, 46 PB9, 47 VSS_3, 48 VDD+3

## TS18-5-15-SL-160-SMT-TR
designator S?, comment Switche
Switch Tactile OFF (ON) SPST Round Button Gull Wing 0.05A 12VDC 80000Cycles 1.6N SMD T/R; Manufacturer: Same Sky; Manufacturer Part Number: TS18-5-15-SL-160-SMT-TR; Number of Positions: 2; Supplier: DigiKey; Supplier Part Number: 2223-TS18-5-15-SL-160-SMT-TRCT-ND; RoHS: Compliant; Category: Tactile Switches; Stock: 1247; Pricing: 1=0,19, 10=0,165, 25=0,1552, 100=0,1395, 250=0,1294, 500=0,12212, 1000=0,11526 (USD); REACH SVHC: Yes; ComponentLink1URL: https://datasheet.octopart.com:443/TS18-5-15-SL-160-SMT-TR-Same-Sky-datasheet-188843497.pdf?src-supplier=Same+Sky; ComponentLink1Description: https://datasheet.octopart.com:443/TS18-5-15-SL-160-SMT-TR-Same-Sky-datasheet-188843497.pdf?src-supplier=Same+Sky; ComponentLink2URL: https://datasheet.octopart.com:443/TS18-5-15-SL-160-SMT-TR-Same-Sky-datasheet-181920490.pdf?src-supplier=Same+Sky; ComponentLink2Description: https://datasheet.octopart.com:443/TS18-5-15-SL-160-SMT-TR-Same-Sky-datasheet-181920490.pdf?src-supplier=Same+Sky; ComponentLink3URL: https://datasheet.octopart.com:443/TS18-5-15-SL-160-SMT-TR-CUI-Devices-datasheet-175929253.pdf?src-supplier=Same+Sky; ComponentLink3Description: https://datasheet.octopart.com:443/TS18-5-15-SL-160-SMT-TR-CUI-Devices-datasheet-175929253.pdf?src-supplier=Same+Sky; ComponentLink4URL: https://datasheet.octopart.com:443/TS18-5-15-SL-160-SMT-TR-CUI-Devices-datasheet-164366436.pdf?src-supplier=Same+Sky; ComponentLink4Description: https://datasheet.octopart.com:443/TS18-5-15-SL-160-SMT-TR-CUI-Devices-datasheet-164366436.pdf?src-supplier=Same+Sky; ComponentLink5URL: https://datasheet.octopart.com:443/TS18-5-15-SL-160-SMT-TR-CUI-Devices-datasheet-180438975.pdf?src-supplier=IHS; ComponentLink5Description: https://datasheet.octopart.com:443/TS18-5-15-SL-160-SMT-TR-CUI-Devices-datasheet-180438975.pdf?src-supplier=IHS; ComponentLink6URL: https://datasheet.octopart.com:443/TS18-5-15-SL-160-SMT-TR-Same-Sky-datasheet-182881610.pdf?src-supplier=Electro+Sonic; ComponentLink6Description: https://datasheet.octopart.com:443/TS18-5-15-SL-160-SMT-TR-Same-Sky-datasheet-182881610.pdf?src-supplier=Electro+Sonic; ComponentLink7URL: https://datasheet.octopart.com:443/TS18-5-15-SL-160-SMT-TR-Same-Sky-datasheet-189105774.pdf?src-supplier=Master+Electronics; ComponentLink7Description: https://datasheet.octopart.com:443/TS18-5-15-SL-160-SMT-TR-Same-Sky-datasheet-189105774.pdf?src-supplier=Master+Electronics; ComponentLink8URL: https://datasheet.octopart.com:443/TS18-5-15-SL-160-SMT-TR-Same-Sky-datasheet-188930973.pdf?src-supplier=TME; ComponentLink8Description: https://datasheet.octopart.com:443/TS18-5-15-SL-160-SMT-TR-Same-Sky-datasheet-188930973.pdf?src-supplier=TME; ComponentLink9URL: https://octopart.com:443/opatz8j6/c1?t=KqQziqu64Oof94FmiUg-v1zZcx-rK8_uQUNwDr2uzy2NbQps1uuKmyUbDrtFy_CDssSJIcErDHX75Ys5MpkumzxoWGo4KhLXMNYhRtSnonsxhN_CNdDrPqsbc8SxFqtwz3xKBaWuQKkbHkGvGGRF6ALid7OIyA0m_oQkKLWzqk3gbe1tIcLUqSm5UOzC-FAE6C2vcMRQTyfBlqc64UCEh4kSPYIbI5Zr4j74PpPdHNqzdRLzVeN949G-BOd3U8GEncgz5U4_BQw8HkAWMuUU45upHD5PFKjXlYlUYq-5nLKtFFdJKT8Pk-5NpzAUqV0c61kg5nU_alS4vpLGsLBGxkVf5pHzWCVdbA&src-supplier=Compliance+Statements; ComponentLink9Description: https://octopart.com:443/opatz8j6/c1?t=KqQziqu64Oof94FmiUg-v1zZcx-rK8_uQUNwDr2uzy2NbQps1uuKmyUbDrtFy_CDssSJIcErDHX75Ys5MpkumzxoWGo4KhLXMNYhRtSnonsxhN_CNdDrPqsbc8SxFqtwz3xKBaWuQKkbHkGvGGRF6ALid7OIyA0m_oQkKLWzqk3gbe1tIcLUqSm5UOzC-FAE6C2vcMRQTyfBlqc64UCEh4kSPYIbI5Zr4j74PpPdHNqzdRLzVeN949G-BOd3U8GEncgz5U4_BQw8HkAWMuUU45upHD5PFKjXlYlUYq-5nLKtFFdJKT8Pk-5NpzAUqV0c61kg5nU_alS4vpLGsLBGxkVf5pHzWCVdbA&src-supplier=Compliance+Statements; ComponentLink10URL: https://octopart.com:443/opatz8j6/c1?t=5TuQG_H1VdDI0zmpkaUogf7crYyPNVBf0k_KOzsDWrKgghMrTiwTgkJvF82Fohk73jLvzUhOiJaICJ3eYpaXQdRngcS_J_7L04GUGwDgkqFMas1KgFoMTjv4y56G33NhKN895Q6FBkrs4hLZm2-G0tTLkmjqgljZkTBtIOpsPq3bLlN0U6HwHzKbD1GQzks0LOoD9VrKmXtTzZY2G9pN7PjrFFRVOUD7x9beLLEegtBpS8dMmbJc8pCa9l4YTIJIjLovOzNrXIJHBwzob06GnXaCWsyby083_P3aNdFhgRg4M43JiNcvZ5vO-tiLFyEQi8i71cU1UqiPFy5x59SfeejwKOU9-VxF_QSYC2eKXlQDgRbrpw&src-supplier=Compliance+Statements; ComponentLink10Description: https://octopart.com:443/opatz8j6/c1?t=5TuQG_H1VdDI0zmpkaUogf7crYyPNVBf0k_KOzsDWrKgghMrTiwTgkJvF82Fohk73jLvzUhOiJaICJ3eYpaXQdRngcS_J_7L04GUGwDgkqFMas1KgFoMTjv4y56G33NhKN895Q6FBkrs4hLZm2-G0tTLkmjqgljZkTBtIOpsPq3bLlN0U6HwHzKbD1GQzks0LOoD9VrKmXtTzZY2G9pN7PjrFFRVOUD7x9beLLEegtBpS8dMmbJc8pCa9l4YTIJIjLovOzNrXIJHBwzob06GnXaCWsyby083_P3aNdFhgRg4M43JiNcvZ5vO-tiLFyEQi8i71cU1UqiPFy5x59SfeejwKOU9-VxF_QSYC2eKXlQDgRbrpw&src-supplier=Compliance+Statements; ComponentLink11URL: https://octopart.com:443/opatz8j6/c1?t=nNyksS4OFAe7rUd6DhF4K8r6o57AjeS8tI_GyJo9P6PuIf9GcO62KBbpurcikYfT6BH96f_1I3DNjWfkmWxStmMu78LfC3lHibdmNGhWdlRgMOgGC5lKJxj4UCOd6BCMq8GmeemBwRN9e-JK4HDHXjbSuReabaGsExsfZftNH5wU3LuHKFoDIaXyntNZvrQt-qG3Z_28gpmRM9jOj6RhZ-njPaOsFmLJf_ewcFJT0Yb1nPyPXqlIZEzNEZW1pe209Zcp9Cla7nz3OPw0rn2KyWR68FH1KtTO8Wzlwmo_FpOlLI2Ll_R3PetVRFYr7OKto1QpMz4ipcSxL713lRSR6rtWnWvoOYdLNkw5KFhXaF6QB9MhAhqbSL8&src-supplier=Compliance+Statements; ComponentLink11Description: https://octopart.com:443/opatz8j6/c1?t=nNyksS4OFAe7rUd6DhF4K8r6o57AjeS8tI_GyJo9P6PuIf9GcO62KBbpurcikYfT6BH96f_1I3DNjWfkmWxStmMu78LfC3lHibdmNGhWdlRgMOgGC5lKJxj4UCOd6BCMq8GmeemBwRN9e-JK4HDHXjbSuReabaGsExsfZftNH5wU3LuHKFoDIaXyntNZvrQt-qG3Z_28gpmRM9jOj6RhZ-njPaOsFmLJf_ewcFJT0Yb1nPyPXqlIZEzNEZW1pe209Zcp9Cla7nz3OPw0rn2KyWR68FH1KtTO8Wzlwmo_FpOlLI2Ll_R3PetVRFYr7OKto1QpMz4ipcSxL713lRSR6rtWnWvoOYdLNkw5KFhXaF6QB9MhAhqbSL8&src-supplier=Compliance+Statements; ComponentLink12URL: https://octopart.com:443/opatz8j6/c1?t=t126xfX2WFFDCZiHgGZKRNmSZBGca-6MUwxDoB1KZwGm-MDEXOGx3myaXTtL37PnDGe64ms3T6XxMlvLs-jqkqCJLmUpUyu_VUX8p6MyLSWy483A1_Q4GR8p4grzp1j9pRgMrP38jeXKmSKVwUa1bbGfy9rMLlm5m2edAtWTvuwpJbi33YYMGxp_LByoLvBZFUtQ1moT2PLJl7tu5UHWVp59rpSyS-dwg_BPeWniREiDzOA5h9khCPk4edCGEGtvJlfiBNw3AyjlYVnHHca_tbfztbon2n7D9TfQwcMasdfyFATPb996eGWsakBo40ZDGuiPYkqhPWhteUU_E0iBevRbUp2OzaS4Hg&src-supplier=Compliance+Statements; ComponentLink12Description: https://octopart.com:443/opatz8j6/c1?t=t126xfX2WFFDCZiHgGZKRNmSZBGca-6MUwxDoB1KZwGm-MDEXOGx3myaXTtL37PnDGe64ms3T6XxMlvLs-jqkqCJLmUpUyu_VUX8p6MyLSWy483A1_Q4GR8p4grzp1j9pRgMrP38jeXKmSKVwUa1bbGfy9rMLlm5m2edAtWTvuwpJbi33YYMGxp_LByoLvBZFUtQ1moT2PLJl7tu5UHWVp59rpSyS-dwg_BPeWniREiDzOA5h9khCPk4edCGEGtvJlfiBNw3AyjlYVnHHca_tbfztbon2n7D9TfQwcMasdfyFATPb996eGWsakBo40ZDGuiPYkqhPWhteUU_E0iBevRbUp2OzaS4Hg&src-supplier=Compliance+Statements; ComponentLink13URL: https://octopart.com:443/opatz8j6/c1?t=02Cwja4DnmEU2kvMGESJzMZfwBjjacm7rwJjDRqoW2WPG_ajbD7_Zrucpqc6ANZHQov3Pc8-1vHinTYKABVGG1ZpuwUDp7SkOc8gKQoVZ7TTg90rIjroVSqDWCSAroEx8fjttzV7V-ktWv9EgHe2sMN4RKZgebQhELuKJYz0OUvgmxWJiuCriDViNqVffVq7m80LF3vNQzeilDUPI0QZjjM_-nceRyAhJp-NiEoFegjfyvnVw17fjy6j_XJIJZus_mg8XysVjjj8tj-tWddsZx4OP2mGWhZV_vPQyNaDq7vtGQOmoHkp4aABHTUKlhwn4Fjr3vnmFHBE5sXusNA9EAFK46a8K1iDqRQ75wbKLJdatUYaQQ&src-supplier=Compliance+Statements; ComponentLink13Description: https://octopart.com:443/opatz8j6/c1?t=02Cwja4DnmEU2kvMGESJzMZfwBjjacm7rwJjDRqoW2WPG_ajbD7_Zrucpqc6ANZHQov3Pc8-1vHinTYKABVGG1ZpuwUDp7SkOc8gKQoVZ7TTg90rIjroVSqDWCSAroEx8fjttzV7V-ktWv9EgHe2sMN4RKZgebQhELuKJYz0OUvgmxWJiuCriDViNqVffVq7m80LF3vNQzeilDUPI0QZjjM_-nceRyAhJp-NiEoFegjfyvnVw17fjy6j_XJIJZus_mg8XysVjjj8tj-tWddsZx4OP2mGWhZV_vPQyNaDq7vtGQOmoHkp4aABHTUKlhwn4Fjr3vnmFHBE5sXusNA9EAFK46a8K1iDqRQ75wbKLJdatUYaQQ&src-supplier=Compliance+Statements; ComponentLink14URL: https://octopart.com:443/opatz8j6/c1?t=MWB8aWLMCEa5dTCodpc9wy5tGtv1fCscZtOe0Ybg027ASu8HEYvKHkGz5iCsi8ACwId3Q21q68zZZizw8C5z_OejLQs9i0XaiWeqn2gxUJXegKDoUl8bucjJRFstQ0igwneqP9BtOj8w93FWfGyYC4TgbuZlgACMuiKzvkAYrV37LtAgHM4g4fjLRsaGTJZQcOfhH4qSqHm8oHxIBC_zx6Pq2iEGNi_tTsU3RYYjLyf3Waj8IhmY30DzBXJF-1dvl05Mg3Dxi15a-YM8xyppGP_ZpoA8BjJmUvghSF1tHJs4sdBrrIUpFgCP80uJKUBrdh0swuitwpmiIqeC7N6_JtFY4nyt2iC9Wg96ii4EYhWJ0ljkVw3V3PQ&src-supplier=Compliance+Statements; ComponentLink14Description: https://octopart.com:443/opatz8j6/c1?t=MWB8aWLMCEa5dTCodpc9wy5tGtv1fCscZtOe0Ybg027ASu8HEYvKHkGz5iCsi8ACwId3Q21q68zZZizw8C5z_OejLQs9i0XaiWeqn2gxUJXegKDoUl8bucjJRFstQ0igwneqP9BtOj8w93FWfGyYC4TgbuZlgACMuiKzvkAYrV37LtAgHM4g4fjLRsaGTJZQcOfhH4qSqHm8oHxIBC_zx6Pq2iEGNi_tTsU3RYYjLyf3Waj8IhmY30DzBXJF-1dvl05Mg3Dxi15a-YM8xyppGP_ZpoA8BjJmUvghSF1tHJs4sdBrrIUpFgCP80uJKUBrdh0swuitwpmiIqeC7N6_JtFY4nyt2iC9Wg96ii4EYhWJ0ljkVw3V3PQ&src-supplier=Compliance+Statements
footprint Switche
pins: 1, 2, 3, 4

## USB4110-GF-A
designator U?, comment USB-C
USB Connector, 16 Contact(s), Male, Right Angle, Surface Mount Terminal, Locking, Receptacle; Manufacturer: Global Connector Technology; Manufacturer Part Number: USB4110-GF-A; Contact Resistance: 50mΩ; Dielectric Material: Polyethylene; Insulation Resistance: 100MΩ; Number of Contacts: 16; Number of Ports: 1; USB Standard: USB 2.0; Voltage Rating: 20V; Supplier: DigiKey; Supplier Part Number: 2073-USB4110-GF-A-1-ND; RoHS: Compliant; Category: USB Connectors; Stock: 41559; Pricing: 1=1,24, 10=1,049, 25=0,9836, 50=0,9364, 100=0,8916, 250=0,83576, 500=0,79584 (USD); China RoHS: Compliant; Contact Gender: Male; Contact Material: Gold, Nickel; Gender: Receptacle; Height: 3.46mm; Lifecycle Status: Production; Max Operating Temperature: 85°C; Min Operating Temperature: -40°C; Pins: 16; Number of Rows: 1; Orientation: Horizontal; REACH SVHC: Yes; Shell Finish: Nickel; Shell Material: Stainless Steel; Terminal Pitch: 500µm; ComponentLink1URL: https://datasheet.octopart.com:443/USB4110-GF-A-Global-Connector-Technology-datasheet-166929324.pdf?src-supplier=SOS+electronic; ComponentLink1Description: https://datasheet.octopart.com:443/USB4110-GF-A-Global-Connector-Technology-datasheet-166929324.pdf?src-supplier=SOS+electronic; ComponentLink2URL: https://datasheet.octopart.com:443/USB4110-GF-A-Global-Connector-Technology-datasheet-137417970.pdf?src-supplier=Upverter; ComponentLink2Description: https://datasheet.octopart.com:443/USB4110-GF-A-Global-Connector-Technology-datasheet-137417970.pdf?src-supplier=Upverter; ComponentLink3URL: https://datasheet.octopart.com:443/USB4110-GF-A-Global-Connector-Technology-datasheet-179886649.pdf?src-supplier=TME; ComponentLink3Description: https://datasheet.octopart.com:443/USB4110-GF-A-Global-Connector-Technology-datasheet-179886649.pdf?src-supplier=TME; ComponentLink4URL: https://datasheet.octopart.com:443/USB4110-GF-A-GCT-datasheet-188869077.pdf?src-supplier=TME; ComponentLink4Description: https://datasheet.octopart.com:443/USB4110-GF-A-GCT-datasheet-188869077.pdf?src-supplier=TME; ComponentLink5URL: https://datasheet.octopart.com:443/USB4110-GF-A-GCT-datasheet-166933377.pdf?src-supplier=TME; ComponentLink5Description: https://datasheet.octopart.com:443/USB4110-GF-A-GCT-datasheet-166933377.pdf?src-supplier=TME
footprint USB-C
pins: A1 GND, A4 Vbus, A5 CC1, A6 Dp1, A7 Dn1, A8 SBU1, A9 Vbus, A12 GND, B1 GND, B4 Vbus, B5 CC2, B6 Dp2, B7 Dn2, B8 SBU2, B9 Vbus, B12 GND, MP1 SH, MP2 SH, MP3 SH, MP4 SH